# Altium footprint library GRT31CR61H106ME01L.PcbLib: 1 footprints
Each footprint in its own frame and in the unit in brackets; x right, y up, seen from the top. Pads: shape width x height; smd on the part's side, far side on the other; paste and mask are expansions set on the pad; w line width, h text height; cw(c..) or ccw(c..) is an arc to the next point about the centre after c.
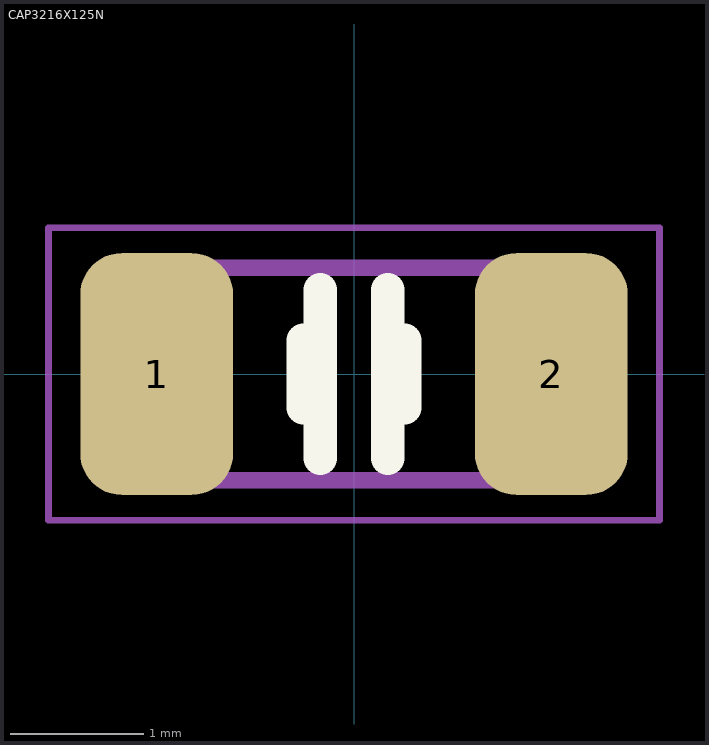
[diagram p0: the footprint, top view; thin cyan lines are the x and y axes]

## CAP3216X125N [mm]
pads (2):
  rrect54% 1.15x1.82 smd: 1(-1.485,0) 2(1.485,0)
Top Overlay:
  lines w0.254: -0.381,-0.254 -0.381,0.254 ; -0.254,-0.635 -0.254,0.635 ; 0.254,-0.635 0.254,0.635 ; 0.381,-0.254 0.381,0.254
Mechanical 13:
  lines w0.127: -1.6,-0.8 -1.6,0.8 1.6,0.8 1.6,-0.8 -1.6,-0.8
  text "'.Designator'" at 0.1,1.476 h0.7
Mechanical 15:
  lines w0.05: -2.3,-1.1 -2.3,1.1 2.3,1.1 2.3,-1.1 -2.3,-1.1